# Altium footprint library 9-Comp+Tests.PcbLib: 125 footprints (part 2 of 8)
Each footprint in its own frame and in the unit in brackets; x right, y up, seen from the top. Pads: shape width x height; smd on the part's side, far side on the other; paste and mask are expansions set on the pad; w line width, h text height; cw(c..) or ccw(c..) is an arc to the next point about the centre after c.
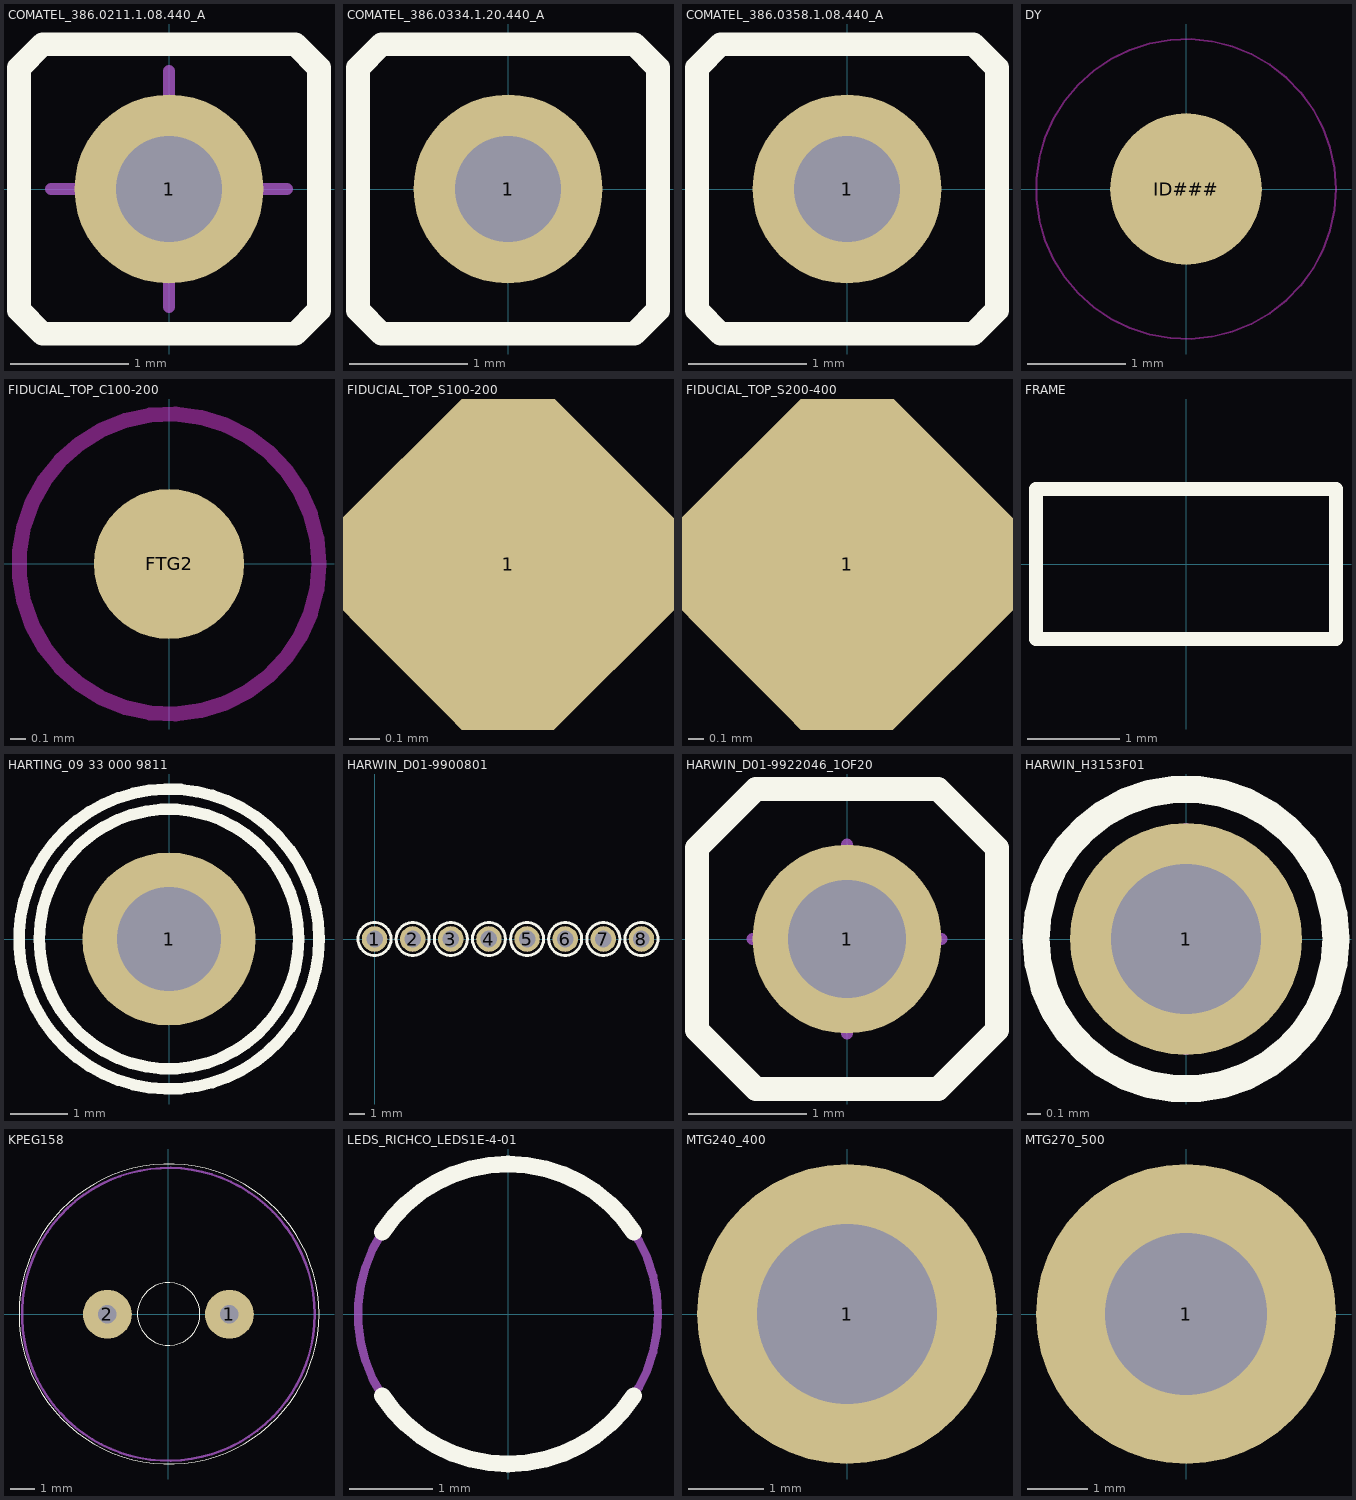
[diagram p1: the footprints below, top view; thin cyan lines are the x and y axes]

## COMATEL_386.0211.1.08.440_A [mm] "Wire-Wrap contact (Pin Length= 16.5mm)"
height 18.2
pads (1):
  round 1.6 hole 0.9: 1(0,0)
Top Overlay:
  lines w0.2: -1.27,-1.025 -1.07,-1.225 1.07,-1.225 1.27,-1.025 1.27,1.025 1.07,1.225 -1.07,1.225 -1.27,1.025 -1.27,-1.025
Mechanical 8:
  lines w0.1: -1,0 0,0 ; 0,-1 0,0 ; 0,1 0,0 ; 1,0 0,0
Mechanical 14:
  lines w0.1: -1.27,-1.025 -1.27,1.025 -1.07,1.225 1.07,1.225 1.27,1.025 1.27,-1.025 1.07,-1.225 -1.07,-1.225 -1.27,-1.025
3D body "COMATEL_386.0211.1.08.440_a.stp": height 18.2, standoff -3.8, extent -1.27,-1.225 1.27,1.225

## COMATEL_386.0334.1.20.440_A [mm] "Wire-Wrap contact (Pin Length= 7.5mm)"
height 9.2
pads (1):
  round 1.6 hole 0.9: 1(0,0)
Top Overlay:
  lines w0.2: -1.27,-1.025 -1.07,-1.225 1.07,-1.225 1.27,-1.025 1.27,1.025 1.07,1.225 -1.07,1.225 -1.27,1.025 -1.27,-1.025
Mechanical 14:
  lines w0.1: -1.27,-1.025 -1.27,1.025 -1.07,1.225 1.07,1.225 1.27,1.025 1.27,-1.025 1.07,-1.225 -1.07,-1.225 -1.27,-1.025
3D body "COMATEL_386.0334.1.20.440_a.stp": height 9.2, standoff -3.3, extent -1.27,-1.225 1.27,1.225

## COMATEL_386.0358.1.08.440_A [mm] "1 Out of 8 Contacts of  Straight Strip Header Pitch 2.54mm L=6.3mm ''Mini-Wire-Wrap''"
height 8
pads (1):
  round 1.6 hole 0.9: 1(0,0)
Top Overlay:
  lines w0.2: -1.27,-1.025 -1.07,-1.225 1.07,-1.225 1.27,-1.025 1.27,1.025 1.07,1.225 -1.07,1.225 -1.27,1.025 -1.27,-1.025
Mechanical 14:
  lines w0.1: -1.27,-1.025 -1.27,1.025 -1.07,1.225 1.07,1.225 1.27,1.025 1.27,-1.025 1.07,-1.225 -1.07,-1.225 -1.27,-1.025
3D body "COMATEL_386.0358.1.08.440_a.stp": height 8, standoff -3.2, extent -1.27,-1.225 1.27,1.225

## DY [mm]
height 11.7
pads (1):
  round 1.54 smd: ID###(0,0)
Keep-Out Layer:
  circle w0.02: c0,0 r1.524
3D body "1_016-1_016-3_tp.stp": height 0.02, standoff 0, extent -1.5,-1.5 1.5,1.5

## FIDUCIAL_TOP_C100-200 [mm] "Round Fiducial Target, Top Layer, 1.0mm, Top Solder 2.0mm, Keepout =2.0mm"
height 11.7
pads (1):
  round 1 smd paste-0.51 mask+0.5: FTG2(0,0)
Top Layer keep-out:
  circle w0.1: c0,0 r1
3D body "y100-100.stp": height 0.03, standoff 0, extent -0.5,-0.5 0.5,0.5

## FIDUCIAL_TOP_S100-200 [mm] "Square Fiducial Target, Top Layer, 1.0mm, Top Solder 2.0mm, Keepout =2.0mm"
height 11.7
pads (1):
  rect 1x1 smd rot 45 paste-0.51 mask+0.5: 1(0,0)
3D body "p100-100.stp": height 0.02, standoff 0, extent -0.707,-0.707 0.707,0.707

## FIDUCIAL_TOP_S200-400 [mm] "Square Fiducial Target, Top Layer, 2.0mm, Top Solder 4.0mm, Keepout =4.0mm"
height 11.7
pads (1):
  rect 2x2 smd rot 45 paste-0.9 mask+1: 1(0,0)
3D body "p200-200.stp": height 0.02, standoff 0, extent -1.414,-1.414 1.414,1.414

## FRAME [mm]
height 11.7
Top Overlay:
  lines w0.152: -1.626,-0.813 -1.626,0.813 1.626,0.813 1.626,-0.813 -1.626,-0.813

## HARTING_09 33 000 9811 [mm] "Single PC Board Adaptor for Han E Module"
height 23
pads (1):
  round 3 hole 1.8: 1(0,0)
Top Overlay:
  circle w0.2: c0,0 r2.25
  circle w0.2: c0,0 r2.6
Mechanical 8:
  lines w0.05: -0.5,0 0,0 ; 0,-0.5 0,0 ; 0,0.5 0,0 ; 0.5,0 0,0
Mechanical 14:
  circle w0.1: c0,0 r2.25
  circle w0.1: c0,0 r1.25
  circle w0.1: c0,0 r2.6
3D body "HARTING_09 33 000 9811.stp": height 23, standoff -4.6, extent -2.6,-2.6 2.6,2.6

## HARWIN_D01-9900801 [mm] "Sub-miniature PC Board Socket for ?.5mm Pin"
height 0.43
pads (8):
  round 1.7 hole 1.1: 1(0,0) 2(2.54,0) 3(5.08,0) 4(7.62,0) 5(10.16,0) 6(12.7,0) 7(15.24,0) 8(17.78,0)
Top Overlay:
  circle w0.2: c0,0 r1.1
  circle w0.2: c2.54,0 r1.1
  circle w0.2: c5.08,0 r1.1
  circle w0.2: c10.16,0 r1.1
  circle w0.2: c12.7,0 r1.1
  circle w0.2: c7.62,0 r1.1
  circle w0.2: c15.24,0 r1.1
  circle w0.2: c17.78,0 r1.1
Mechanical 8:
  lines w0.1: -0.8,0 0,0 ; 0,-0.8 0,0 ; 0,0.8 0,0 ; 0.8,0 0,0 ; 1.74,0 2.54,0 ; 2.54,-0.8 2.54,0 ; 2.54,0.8 2.54,0 ; 3.34,0 2.54,0 ; 4.28,0 5.08,0 ; 5.08,-0.8 5.08,0 ; 5.08,0.8 5.08,0 ; 5.88,0 5.08,0 ; 6.82,0 7.62,0 ; 7.62,-0.8 7.62,0 ; 7.62,0.8 7.62,0 ; 8.42,0 7.62,0 ; 9.36,0 10.16,0 ; 10.16,-0.8 10.16,0 ; 10.16,0.8 10.16,0 ; 10.96,0 10.16,0 ; 11.9,0 12.7,0 ; 12.7,-0.8 12.7,0 ; 12.7,0.8 12.7,0 ; 13.5,0 12.7,0 ; 14.44,0 15.24,0 ; 15.24,-0.8 15.24,0 ; 15.24,0.8 15.24,0 ; 16.04,0 15.24,0 ; 16.98,0 17.78,0 ; 17.78,-0.8 17.78,0 ; 17.78,0.8 17.78,0 ; 18.58,0 17.78,0
Mechanical 14:
  circle w0.1: c0,0 r0.725
  circle w0.1: c2.54,0 r0.725
  circle w0.1: c5.08,0 r0.725
  circle w0.1: c10.16,0 r0.725
  circle w0.1: c12.7,0 r0.725
  circle w0.1: c7.62,0 r0.725
  circle w0.1: c15.24,0 r0.725
  circle w0.1: c17.78,0 r0.725
3D body "HARWIN_D01-9900801.stp": height 0.43, standoff -3.18, extent -0.725,-0.725 18.505,0.725

## HARWIN_D01-9922046_1OF20 [mm] "1 of 20 Contact 2.54mm Pitch Single-In-Line Header Strip - Top Pin ?.46mm - Bottom Pin ?.69mm"
height 7.43
pads (1):
  round 1.6 hole 1: 1(0,0)
Top Overlay:
  lines w0.2: -1.27,-0.77 -1.27,0.77 -0.77,1.27 0.77,1.27 1.27,0.77 1.27,-0.77 0.77,-1.27 -0.77,-1.27 -1.27,-0.77
Mechanical 8:
  lines w0.1: -0.8,0 0,0 ; 0,-0.8 0,0 ; 0,0.8 0,0 ; 0.8,0 0,0
Mechanical 14:
  lines w0.1: -1.27,-0.77 -1.27,0.77 -0.77,1.27 0.77,1.27 1.27,0.77 1.27,-0.77 0.77,-1.27 -0.77,-1.27 -1.27,-0.77
3D body "HARWIN_D01-9922046_1OF20.stp": height 7.43, standoff -4.3, extent -1.27,-1.27 1.27,1.27

## HARWIN_H3153F01 [mm] "Single Sub-Miniature PC Board Socket for ?.5mm Pin"
height 0.43
pads (1):
  round 1.7 hole 1.1: 1(0,0)
Top Overlay:
  circle w0.2: c0,0 r1.1
Mechanical 8:
  lines w0.1: -0.8,0 0,0 ; 0,-0.8 0,0 ; 0,0.8 0,0 ; 0.8,0 0,0
Mechanical 14:
  circle w0.1: c0,0 r0.725
3D body "HARWIN_H3153F01.stp": height 0.43, standoff -3.18, extent -0.725,-0.725 0.725,0.725

## KPEG158 [mm]
height 11.7
pads (2):
  round 2 hole 0.762: 1(2.5,0)
  round 2 hole 0.762 mask+0.07: 2(-2.5,0)
Top Overlay:
  circle w0.03: c0.013,0.013 r1.283
  circle w0.03: c0.025,0.013 r6.147
Mechanical 15:
  circle w0.1: c0,0 r6
3D body "spk12x05.stp": height 5.5, standoff -4.46, extent -6,-6 6,6

## LEDS_RICHCO_LEDS1E-4-01 [mm] "6.4mm Spacer For 3mm LED - RICHCO LEDS1E Serie"
height 6.4
Top Overlay:
  lines w0.2: -1.51,-0.98 ccw(c0,0) 1.51,-0.98 ; -1.51,0.98 cw(c0,0) 1.51,0.98
Mechanical 14:
  circle w0.1: c0,0 r1.8
3D body "LEDS_RICHCO_LEDS1E-4-01.stp": height 6.4, standoff 0, extent -1.729,-1.8 1.729,1.8

## MTG240_400 [mm] "Plated Through Hole: Hole Dia.=2.4mm Pad Dia.=4.0mm"
height 11.7
pads (1):
  round 4 hole 2.4: 1(0,0)
3D body "v400-240.stp": height 0.02, standoff -1.65, extent -2,-2 2,2

## MTG270_500 [mm] "Plated Through Hole: Hole Dia.=2.7mm Pad Dia.=5.0mm"
height 11.7
pads (1):
  round 5 hole 2.7: 1(0,0)
3D body "v500-270.stp": height 0.02, standoff -1.65, extent -2.5,-2.5 2.5,2.5